# Altium schematic symbol library GT-USB-7010C.Schlib: 1 symbol
Pins are listed as number, name and electrical type; pins without a type are passive.

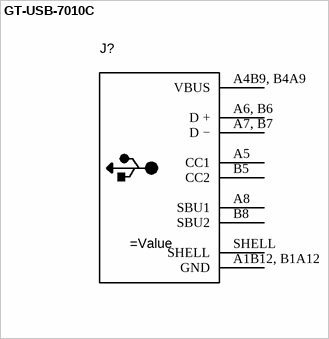
[diagram p0: symbol GT-USB-7010C]

## GT-USB-7010C
designator J?
5A USB 2.0 1 Surface Mount，Right Angle 16P Female -40℃~+85℃ Gold High Conductivity Copper Type-C SMD USB Connectors ROHS
pins: A1B12, B1A12 GND, A4B9, B4A9 VBUS, A5 CC1, A6, B6 D +, A7, B7 D −, A8 SBU1, B5 CC2, B8 SBU2, SHELL